# Altium footprint library LTC-UHF-40-1951.PcbLib: 1 footprints
Each footprint in its own frame and in the unit in brackets; x right, y up, seen from the top. Pads: shape width x height; smd on the part's side, far side on the other; paste and mask are expansions set on the pad; w line width, h text height; cw(c..) or ccw(c..) is an arc to the next point about the centre after c.
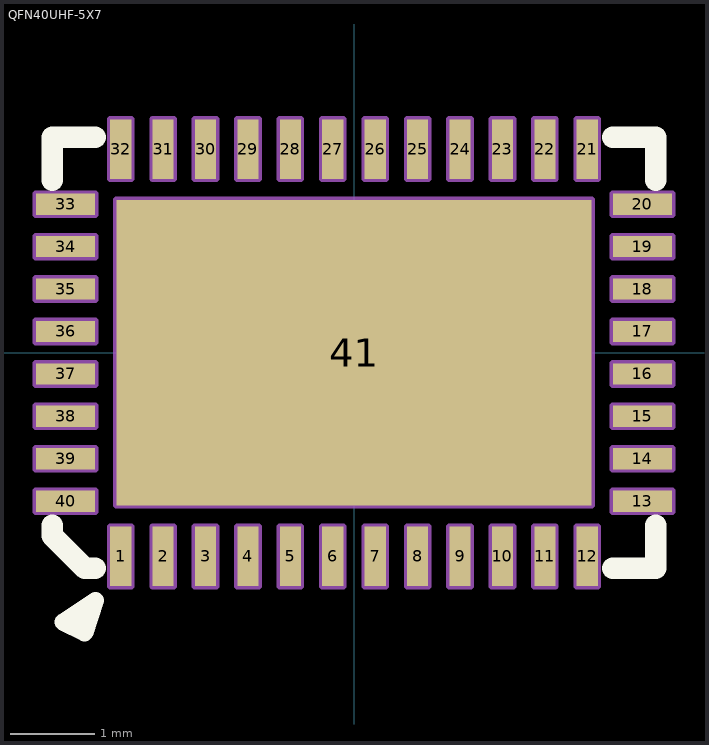
[diagram p0: the footprint, top view; thin cyan lines are the x and y axes]

## QFN40UHF-5X7 [mm]
pads (41):
  rect 0.25x0.7 smd: 1(-2.75,-2.4) 2(-2.25,-2.4) 3(-1.75,-2.4) 4(-1.25,-2.4) 5(-0.75,-2.4) 6(-0.25,-2.4) 7(0.25,-2.4) 8(0.75,-2.4) 9(1.25,-2.4) 10(1.75,-2.4) 11(2.25,-2.4) 12(2.75,-2.4) 21(2.75,2.4) 22(2.25,2.4) 23(1.75,2.4) 24(1.25,2.4) 25(0.75,2.4) 26(0.25,2.4) 27(-0.25,2.4) 28(-0.75,2.4) 29(-1.25,2.4) 30(-1.75,2.4) 31(-2.25,2.4) 32(-2.75,2.4)
  rect 0.7x0.25 smd: 13(3.4,-1.75) 14(3.4,-1.25) 15(3.4,-0.75) 16(3.4,-0.25) 17(3.4,0.25) 18(3.4,0.75) 19(3.4,1.25) 20(3.4,1.75) 33(-3.4,1.75) 34(-3.4,1.25) 35(-3.4,0.75) 36(-3.4,0.25) 37(-3.4,-0.25) 38(-3.4,-0.75) 39(-3.4,-1.25) 40(-3.4,-1.75)
  rect 5.6x3.6 smd: 41(0,0)
Top Overlay:
  lines w0.203: -3.429,-3.175 -3.048,-2.921 -3.175,-3.302 -3.429,-3.175
  lines w0.254: -3.556,-2.032 -3.556,-2.159 -3.175,-2.54 -3.048,-2.54 ; -3.556,2.032 -3.556,2.54 -3.048,2.54 ; 3.048,-2.54 3.556,-2.54 3.556,-2.032 ; 3.048,2.54 3.556,2.54 3.556,2.032
Mechanical 1:
  drawing of 164 lines, arcs and shapes, not listed
Mechanical 2:
  drawing of 164 lines, arcs and shapes, not listed